# EAGLE library part *245 (library digital)
74xx245: Octal tri-state bus transceiver Bidirectional, non-inverting
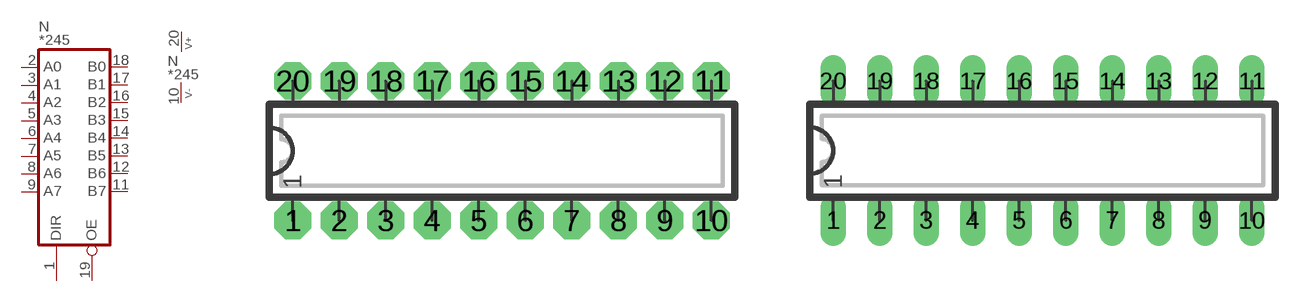
[diagram p13: symbol with the pads of DIP20N; footprints DIP20N, DIP20L]

Designator prefix N; gates  =BUS8_1 P=V+-

## 74AC245N, 74ACT245N, 74ALS245N, 74AS245N, 74HC245N, 74HCT245N, 74LS245N  [DIP20N]
1   :DIR  in
2   :A0
3   :A1
4   :A2
5   :A3
6   :A4
7   :A5
8   :A6
9   :A7
10  P:V-  pwr
11   :B7
12   :B6
13   :B5
14   :B4
15   :B3
16   :B2
17   :B1
18   :B0
19   :OE  in
20  P:V+  pwr

## 74AC245, 74ACT245, 74ALS245, 74AS245, 74HC245, 74HCT245, 74LS245  [DIP20L]
Pads as for DIP20N

## 74AC245L, 74ACT245L, 74ALS245L, 74AS245L, 74HC245L, 74HCT245L, 74LS245L  [DIP20L]
Pads as for DIP20N

## 74AC245R, 74ACT245R, 74ALS245R, 74AS245R, 74HC245R, 74HCT245R, 74LS245R  [DIP20R]
Pads as for DIP20N

## 74HC245S, 74HCT245S, 74LVT245S  [SO20W]
Pads as for DIP20N

## Footprint DIP20N (pad centres in mm)
DIP-20 Standard IC package, 20 pins
drill 0.813 pad 2.032 octagon: 1 0,0; 2 2.54,0; 3 5.08,0; 4 7.62,0; 5 10.16,0; 6 12.7,0; 7 15.24,0; 8 17.78,0; 9 20.32,0; 10 22.86,0; 11 22.86,7.62; 12 20.32,7.62; 13 17.78,7.62; 14 15.24,7.62; 15 12.7,7.62; 16 10.16,7.62; 17 7.62,7.62; 18 5.08,7.62; 19 2.54,7.62; 20 0,7.62

## Footprint DIP20L (pad centres in mm)
DIP-20, long pads Standard IC package, 20 pins
drill 0.813 pad 1.397 long: 1 0,0; 2 2.54,0; 3 5.08,0; 4 7.62,0; 5 10.16,0; 6 12.7,0; 7 15.24,0; 8 17.78,0; 9 20.32,0; 10 22.86,0; 11 22.86,7.62; 12 20.32,7.62; 13 17.78,7.62; 14 15.24,7.62; 15 12.7,7.62; 16 10.16,7.62; 17 7.62,7.62; 18 5.08,7.62; 19 2.54,7.62; 20 0,7.62

## Footprint DIP20R (pad centres in mm)
DIP-20, reduced pads Standard IC package, 20 pins
drill 0.813 pad 1.397 square: 1 0,0; 2 2.54,0; 3 5.08,0; 4 7.62,0; 5 10.16,0; 6 12.7,0; 7 15.24,0; 8 17.78,0; 9 20.32,0; 10 22.86,0; 11 22.86,7.62; 12 20.32,7.62; 13 17.78,7.62; 14 15.24,7.62; 15 12.7,7.62; 16 10.16,7.62; 17 7.62,7.62; 18 5.08,7.62; 19 2.54,7.62; 20 0,7.62

## Footprint SO20W (pad centres in mm)
SO-20, SMD wide SOIC IC package, 20 pins, wide
smd 0.635 x 1.778: 1 -5.715,-4.763; 2 -4.445,-4.763; 3 -3.175,-4.763; 4 -1.905,-4.763; 5 -0.635,-4.763; 6 0.635,-4.763; 7 1.905,-4.763; 8 3.175,-4.763; 9 4.445,-4.763; 10 5.715,-4.763; 11 5.715,4.763; 12 4.445,4.763; 13 3.175,4.763; 14 1.905,4.763; 15 0.635,4.763; 16 -0.635,4.763; 17 -1.905,4.763; 18 -3.175,4.763; 19 -4.445,4.763; 20 -5.715,4.763